# EAGLE library part SP3232 (library serial_interfaces)
2/2 Transceiver Full RS232 16-TSSOP
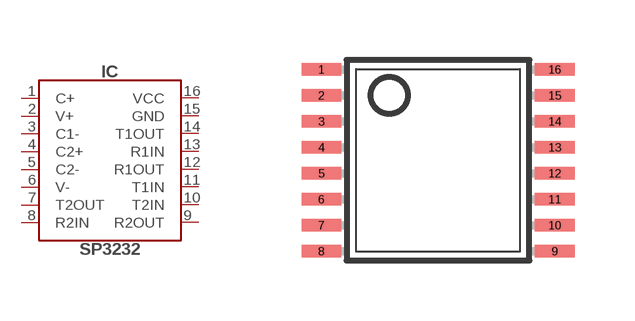
[diagram p3: symbol with the pads of TSSOP16; footprint TSSOP16]

Designator prefix IC

## SP3232 (DIGIKEY#: 1016-1808-1-ND; MANF: Exar Corporation; MANF#: SP3232EEY-L/TR)  [TSSOP16]
1  C+
2  V+
3  C1-
4  C2+
5  C2-
6  V-
7  T2OUT
8  R2IN
9  R2OUT
10  T2IN
11  T1IN
12  R1OUT
13  R1IN
14  T1OUT
15  GND
16  VCC

## Footprint TSSOP16 (pad centres in mm)
Thin Shrink Small Outline Plastic 16 MAX3223-MAX3243.pdf
smd 0.991 x 0.305: 1 -2.918,2.275; 2 -2.918,1.625; 3 -2.918,0.975; 4 -2.918,0.325; 5 -2.918,-0.325; 6 -2.918,-0.975; 7 -2.918,-1.625; 8 -2.918,-2.275; 9 2.918,-2.275; 10 2.918,-1.625; 11 2.918,-0.975; 12 2.918,-0.325; 13 2.918,0.325; 14 2.918,0.975; 15 2.918,1.625; 16 2.918,2.275